# EAGLE library part JEELABS_MA04-2 (library jlpcb-128)
PIN HEADER
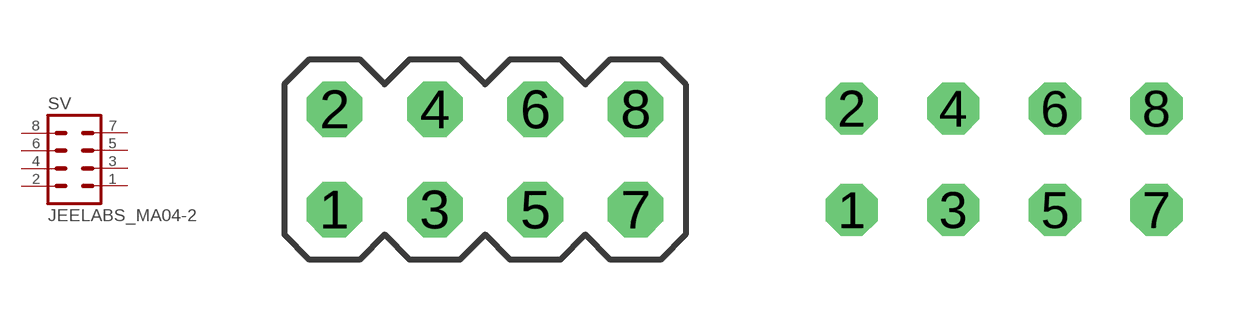
[diagram p1: symbol with the pads of JEELABS_MA04-2; footprints JEELABS_MA04-2, JEELABS_MA04-2-NOSILK]

Designator prefix SV

## JEELABS_MA04-2  [JEELABS_MA04-2]
1  1  pas
2  2  pas
3  3  pas
4  4  pas
5  5  pas
6  6  pas
7  7  pas
8  8  pas

## JEELABS_MA04-2N  [JEELABS_MA04-2-NOSILK]
Pads as for JEELABS_MA04-2

## Footprint JEELABS_MA04-2 (pad centres in mm)
PIN HEADER
drill 0.9 octagon: 1 -3.81,-1.27; 2 -3.81,1.27; 3 -1.27,-1.27; 4 -1.27,1.27; 5 1.27,-1.27; 6 1.27,1.27; 7 3.81,-1.27; 8 3.81,1.27

## Footprint JEELABS_MA04-2-NOSILK (pad centres in mm)
drill 0.8 octagon: 1 -3.81,-1.27; 2 -3.81,1.27; 3 -1.27,-1.27; 4 -1.27,1.27; 5 1.27,-1.27; 6 1.27,1.27; 7 3.81,-1.27; 8 3.81,1.27